# EAGLE library part MKDSN12 (library My Library)
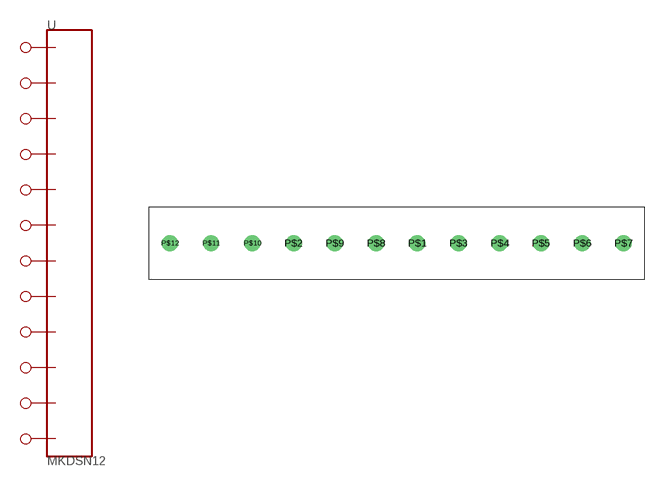
[diagram p15: symbol with the pads of MKDSN12; footprint MKDSN12]

Designator prefix -

## MKDSN12  [MKDSN12]
P$1  P$1
P$2  P$2
P$3  P$3
P$4  P$4
P$5  P$5
P$6  P$6
P$7  P$7
P$8  P$8
P$9  P$9
P$10  P$10
P$11  P$11
P$12  P$12

## Footprint MKDSN12 (pad centres in mm)
drill 1.35 round: P$1 2.54,0; P$2 -12.7,0; P$3 7.62,0; P$4 12.7,0; P$5 17.78,0; P$6 22.86,0; P$7 27.94,0; P$8 -2.54,0; P$9 -7.62,0; P$10 -17.78,0; P$11 -22.86,0; P$12 -27.94,0